# Altium footprint library SnapEDApcb.PcbLib: 2 footprints
Each footprint in its own frame and in the unit in brackets; x right, y up, seen from the top. Pads: shape width x height; smd on the part's side, far side on the other; paste and mask are expansions set on the pad; w line width, h text height; cw(c..) or ccw(c..) is an arc to the next point about the centre after c.
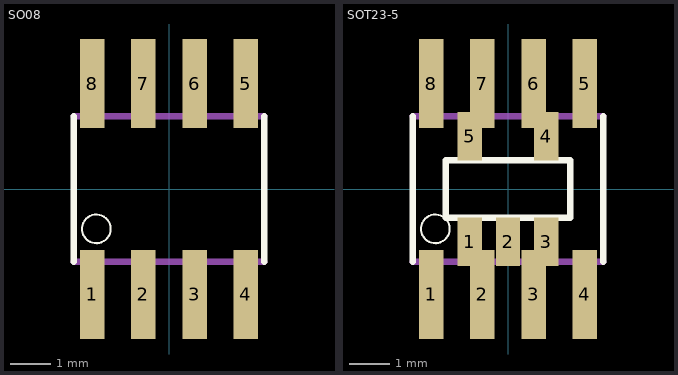
[diagram p0: the footprints below, top view; thin cyan lines are the x and y axes]

## SO08 [mil]
pads (8):
  rect 24x87 smd: 1(-75,-103) 2(-25,-103) 3(25,-103) 4(75,-103) 5(75,103) 6(25,103) 7(-25,103) 8(-75,103)
Top Overlay:
  circle w2: c-71,-39 r14
  lines w6: -92.99,-70.98 -92.99,70.98 ; 92.99,-70.98 92.99,70.98
Mechanical 13:
  region: -68,-113.07 -82.05,-113.07 -82.05,-73 -68,-73
  region: -18,-113.14 -32.04,-113.14 -32.04,-73 -18,-73
  region: 32,-113.12 18.02,-113.12 18.02,-73 32,-73
  region: 82,-113.02 68.01,-113.02 68.01,-73 82,-73
  region: -68,73.13 -82.14,73.13 -82.14,113 -68,113
  region: -18,73.05 -32.02,73.05 -32.02,113 -18,113
  region: 32,73.11 18.03,73.11 18.03,113 32,113
  region: 82,73.09 68.09,73.09 68.09,113 82,113
  lines w6: -92.99,-70.98 92.99,-70.98 ; -92.99,70.98 92.99,70.98

## SOT23-5 [mil]
pads (13):
  rect 24x87 smd: 1(-75,-103) 2(-25,-103) 3(25,-103) 4(75,-103) 5(75,103) 6(25,103) 7(-25,103) 8(-75,103)
  rect 23.62x47.24 smd: 1(-37.4,-51.42) 2(0,-51.42) 3(37.4,-51.42) 4(37.4,51.42) 5(-37.4,51.42)
Top Overlay:
  circle w2: c-71,-39 r14
  lines w6: -92.99,-70.98 -92.99,70.98 ; 92.99,-70.98 92.99,70.98 ; -60.79,-28.03 -60.79,28.07 60.79,28.07 60.79,-28.03 -60.79,-28.03
Mechanical 13:
  region: 46.75,-60.87 28.1,-60.87 28.1,-28.05 46.75,-28.05
  region: 9.35,-60.85 -9.36,-60.85 -9.36,-28.05 9.35,-28.05
  region: -28.05,-60.81 -46.78,-60.81 -46.78,-28.05 -28.05,-28.05
  region: 46.75,28.07 28.07,28.07 28.07,60.78 46.75,60.78
  region: -28.05,28.08 -46.8,28.08 -46.8,60.78 -28.05,60.78
  region: 82,73.09 68.09,73.09 68.09,113 82,113
  region: 32,73.11 18.03,73.11 18.03,113 32,113
  region: -18,73.05 -32.02,73.05 -32.02,113 -18,113
  region: -68,73.13 -82.14,73.13 -82.14,113 -68,113
  region: 82,-113.02 68.01,-113.02 68.01,-73 82,-73
  region: 32,-113.12 18.02,-113.12 18.02,-73 32,-73
  region: -18,-113.14 -32.04,-113.14 -32.04,-73 -18,-73
  region: -68,-113.07 -82.05,-113.07 -82.05,-73 -68,-73
  lines w6: -92.99,-70.98 92.99,-70.98 ; -92.99,70.98 92.99,70.98